# Altium schematic symbol library Temperature sensor.SchLib: 2 symbols
Pins are listed as number, name and electrical type; pins without a type are passive.

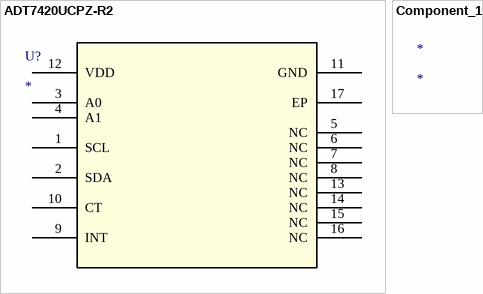
[diagram p0: symbols ADT7420UCPZ-R2 to Component_1]

## ADT7420UCPZ-R2
designator U?
Imported; Manufacturer_Part_Number: ADT7420UCPZ-R2; Vendor: Analog Devices Inc; Value: Value; Type: Type; RefDes: RefDes
footprint CP_16_17
pins: 1 SCL, 2 SDA, 3 A0, 4 A1, 5 NC, 6 NC, 7 NC, 8 NC, 9 INT, 10 CT, 11 GND, 12 VDD, 13 NC, 14 NC, 15 NC, 16 NC, 17 EP

## Component_1
designator *